# EAGLE library part 74LV4051 (library Capstone Library)
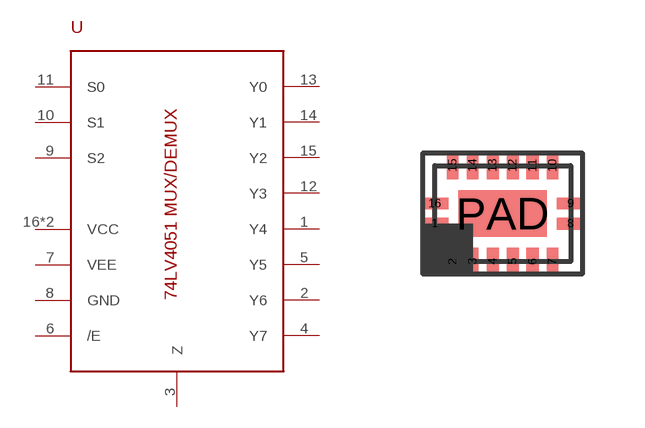
[diagram p4: symbol with the pads of SOT763-1; footprint SOT763-1]

Designator prefix -

## 74LV4051  [SOT763-1]
1  Y4
2  Y6
3  Z
4  Y7
5  Y5
6  /E
7  VEE
8  GND
9  S2
10  S1
11  S0
12  Y3
13  Y0
14  Y1
15  Y2
16  VCC
PAD  VCC

## Footprint SOT763-1 (pad centres in mm)
smd 0.7 x 0.3: 1 -1.7,-0.25; 8 1.7,-0.25; 9 1.7,0.25; 16 -1.7,0.25
smd 0.3 x 0.7: 2 -1.25,-1.2; 3 -0.75,-1.2; 4 -0.25,-1.2; 5 0.25,-1.2; 6 0.75,-1.2; 7 1.25,-1.2; 10 1.25,1.2; 11 0.75,1.2; 12 0.25,1.2; 13 -0.25,1.2; 14 -0.75,1.2; 15 -1.25,1.2
smd 2.2 x 1.15: PAD 0,0